# Altium schematic symbol library Cp0805.Schlib: 1 symbol
Pins are listed as number, name and electrical type; pins without a type are passive.

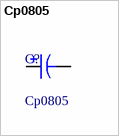
[diagram p0: symbol Cp0805]

## Cp0805
designator C?
P0805 Polarized Chip Capacitor - Standard
pins: 1, 2